# Altium footprint library SOT50P175X90-3N.PcbLib: 1 footprints
Each footprint in its own frame and in the unit in brackets; x right, y up, seen from the top. Pads: shape width x height; smd on the part's side, far side on the other; paste and mask are expansions set on the pad; w line width, h text height; cw(c..) or ccw(c..) is an arc to the next point about the centre after c.
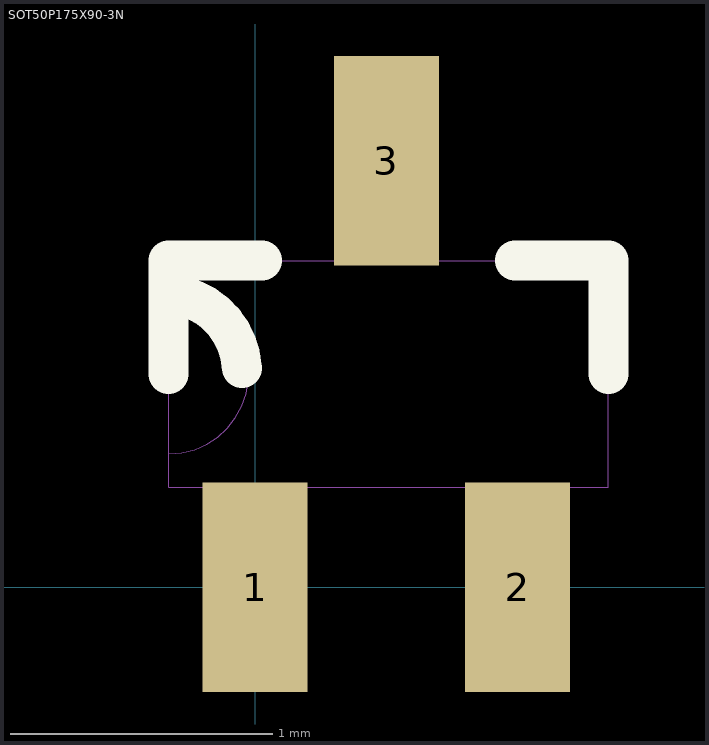
[diagram p0: the footprint, top view; thin cyan lines are the x and y axes]

## SOT50P175X90-3N [mm]
pads (3):
  rect 0.4x0.8 smd: 1(0,0) 2(1,0) 3(0.5,1.626)
Top Overlay:
  lines w0.152: -0.33,0.813 -0.33,1.118 -0.33,1.245 0.025,1.245 ; -0.328,1.117 cw(c-0.348,0.82) -0.051,0.836 ; 0.991,1.245 1.346,1.245 1.346,0.813
Outline:
  lines w0: -0.33,0.508 ccw(c-0.33,0.813) -0.33,1.118 ; -0.33,0.508 -0.33,0.381 -0.152,0.381 ; -0.33,0.508 -0.33,1.118 ; -0.33,1.118 -0.33,1.245 0.356,1.245 ; -0.152,0.381 -0.152,-0.051 0.152,-0.051 0.152,0.381 ; -0.152,0.381 0.152,0.381 ; 0.152,0.381 0.864,0.381 ; 0.356,1.245 0.356,1.676 0.66,1.676 0.66,1.245 ; 0.356,1.245 0.66,1.245 ; 0.66,1.245 1.346,1.245 1.346,0.381 1.168,0.381 ; 0.864,0.381 0.864,-0.051 1.168,-0.051 1.168,0.381 ; 0.864,0.381 1.168,0.381
3D body: height 0.9, standoff 0, extent -0.292,0.013 1.308,1.613